# Altium footprint library 3.18-传感器IC.PcbLib: 23 footprints (part 2 of 2)
Each footprint in its own frame and in the unit in brackets; x right, y up, seen from the top. Pads: shape width x height; smd on the part's side, far side on the other; paste and mask are expansions set on the pad; w line width, h text height; cw(c..) or ccw(c..) is an arc to the next point about the centre after c.
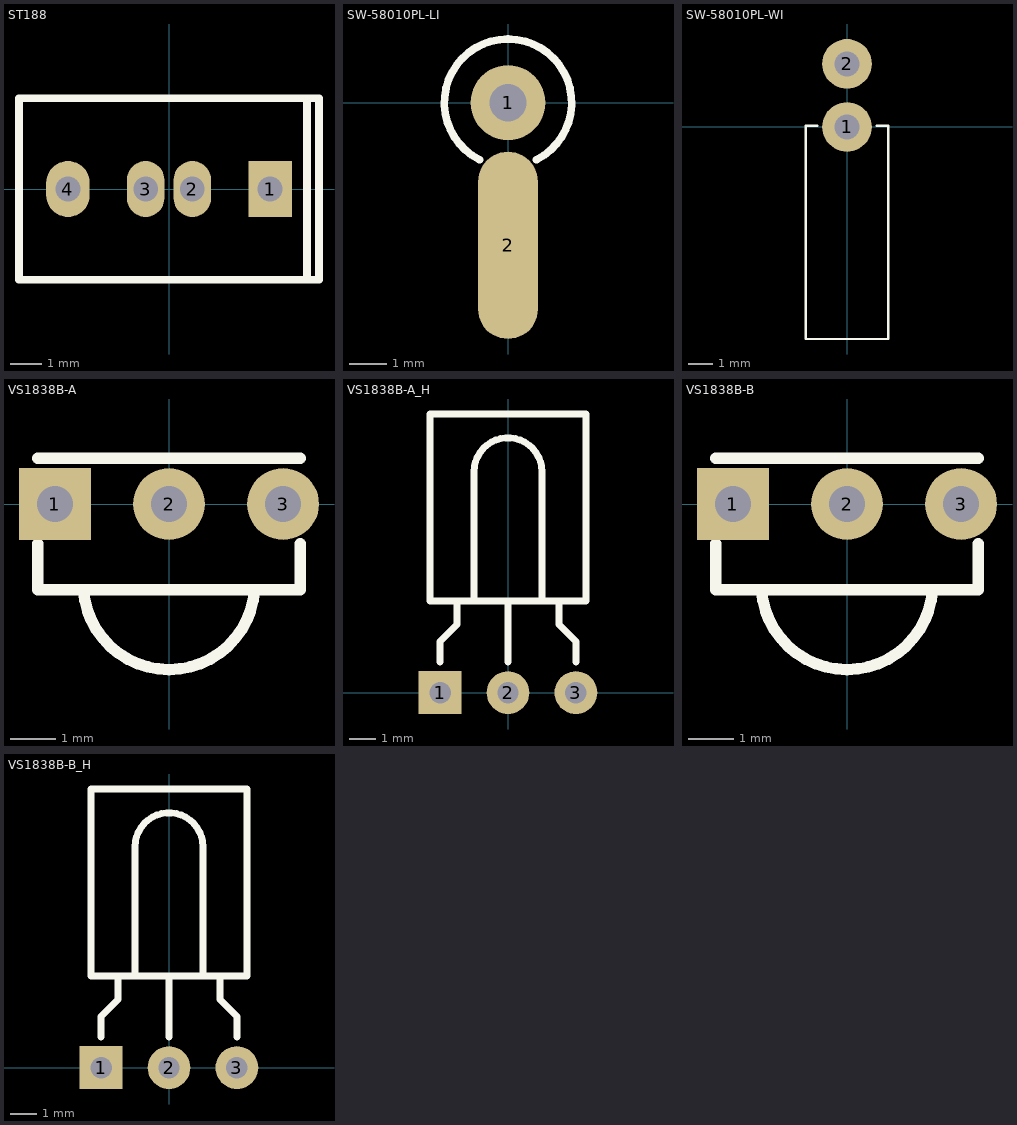
[diagram p1: the footprints below, top view; thin cyan lines are the x and y axes]

## ST188 [mm] "反射型光耦            淘宝ID:黄晶宝石"
pads (4):
  rect 1.4x1.8 hole 0.8: 1(3.25,0)
  oval 1.2x1.8 hole 0.8: 2(0.75,0) 3(-0.75,0)
  oval 1.4x1.8 hole 0.8: 4(-3.25,0)
Top Overlay:
  lines w0.254: 4.445,-2.921 4.445,2.921 ; -4.826,-2.921 4.826,-2.921 4.826,2.921 -4.826,2.921 -4.826,-2.921
3D body "ST188-2.STEP": height 8.2, standoff -3.5, extent -4.7,-2.75 4.7,2.75

## SW-58010PL-LI [mm] "3.2mm*8.5mm(直径*长度）"
pads (2):
  round 2 hole 1: 1(0,0)
  oval 1.6x5 smd: 2(0,-3.81)
Top Overlay:
  lines w0.203: -0.76,-1.521 cw(c0,0) 0.76,-1.521
3D body "SW-58010PL-LI.STEP": height 8.55, standoff -3.45, extent -1.6,-5.549 1.6,1.6

## SW-58010PL-WI [mm] "3.2mm*8.5mm(直径*长度）"
pads (2):
  round 2 hole 1: 1(0,0) 2(0,2.54)
Top Overlay:
  lines w0.1: -1.194,0.051 -1.651,0.051 -1.651,-8.534 1.651,-8.534 1.651,0.051 1.194,0.051
3D body "SW-58010PL-WI.STEP": height 3.2, standoff -3.45, extent -1.6,-8.5 1.6,2.64

## VS1838B-A [mm] "一体红外接收头                 淘宝ID:黄晶宝石"
pads (3):
  rect 1.6x1.6 hole 0.8: 1(-2.54,0)
  round 1.6 hole 0.8: 2(0,0) 3(2.54,0)
Top Overlay:
  lines w0.254: -2.921,-0.889 -2.921,-1.905 2.921,-1.905 2.921,-0.889 ; -2.921,1.016 2.921,1.016 ; -1.905,-1.905 ccw(c0,-1.778) 1.905,-1.905
3D body "VS1838B-A.STEP": height 8.35, standoff -3.45, extent -2.84,-3.6 2.84,0.8

## VS1838B-A_H [mm] "卧式一体红外接收头            淘宝ID:黄晶宝石"
pads (3):
  rect 1.6x1.6 hole 0.8: 1(-2.54,0)
  round 1.6 hole 0.8: 2(0,0) 3(2.54,0)
Top Overlay:
  lines w0.254: -2.54,1.143 -2.54,1.905 -1.905,2.54 -1.905,3.429 ; -1.27,3.429 -1.27,8.255 cw(c0,8.255) 1.27,8.255 1.27,3.429 ; 0,1.143 0,3.429 ; 1.905,3.429 1.905,2.54 2.54,1.905 2.54,1.143 ; -2.921,3.429 2.921,3.429 2.921,10.414 -2.921,10.414 -2.921,3.429
3D body "VS1838B-A_H.STEP": height 4.4, standoff -3.5, extent -2.84,-0.2 2.84,10.3

## VS1838B-B [mm] "一体红外接收头              淘宝ID:黄晶宝石"
pads (3):
  rect 1.6x1.6 hole 0.8: 1(-2.54,0)
  round 1.6 hole 0.8: 2(0,0) 3(2.54,0)
Top Overlay:
  lines w0.254: -2.921,-0.889 -2.921,-1.905 2.921,-1.905 2.921,-0.889 ; -2.921,1.016 2.921,1.016 ; -1.905,-1.905 ccw(c0,-1.778) 1.905,-1.905
3D body "VS1838B-B .STEP": height 8.65, standoff -3.5, extent -3.4,-3.95 3.4,1.15

## VS1838B-B_H [mm] "卧式一体红外接收头             淘宝ID:黄晶宝石"
pads (3):
  rect 1.6x1.6 hole 0.8: 1(-2.54,0)
  round 1.6 hole 0.8: 2(0,0) 3(2.54,0)
Top Overlay:
  lines w0.254: -2.54,1.143 -2.54,1.905 -1.905,2.54 -1.905,3.429 ; -1.27,3.429 -1.27,8.255 cw(c0,8.255) 1.27,8.255 1.27,3.429 ; 0,1.143 0,3.429 ; 1.905,3.429 1.905,2.54 2.54,1.905 2.54,1.143 ; -2.921,3.429 -2.921,10.414 2.921,10.414 2.921,3.429 -2.921,3.429
3D body "VS1838B-B_H.STEP": height 5.15, standoff -3.1, extent -3.4,-0.2 3.4,10.65